# Altium footprint library PcbLibBYB2A.PcbLib: 11 footprints
Each footprint in its own frame and in the unit in brackets; x right, y up, seen from the top. Pads: shape width x height; smd on the part's side, far side on the other; paste and mask are expansions set on the pad; w line width, h text height; cw(c..) or ccw(c..) is an arc to the next point about the centre after c.
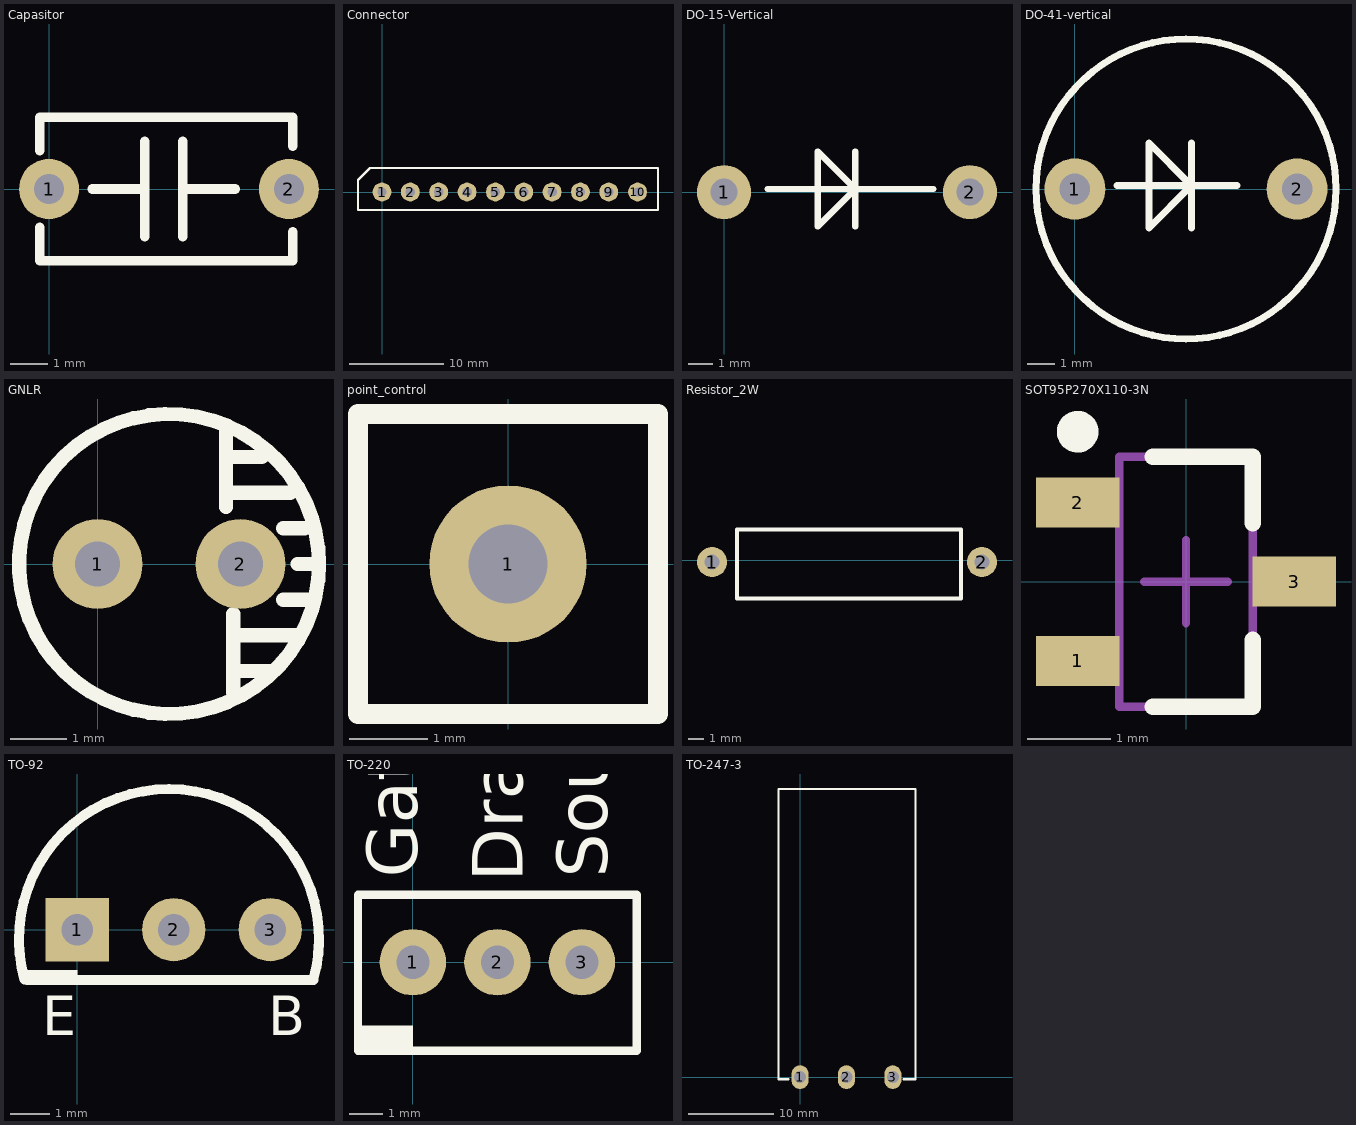
[diagram p0: the footprints below, top view; thin cyan lines are the x and y axes]

## Capasitor [mm]
pads (2):
  round 1.6 hole 0.8: 1(0,0) 2(6.38,0)
Top Overlay:
  lines w0.254: -0.254,-1.016 -0.254,-1.905 6.477,-1.905 6.477,-1.143 ; -0.254,1.016 -0.254,1.905 6.477,1.905 6.477,1.143 ; 1.143,0 2.54,0 ; 2.54,-1.27 2.54,1.27 ; 3.556,-1.27 3.556,1.27 ; 3.556,0 4.953,0
3D body "конденсатор1.STEP": height 7.17, standoff -1, extent -0.316,-2.931 6.58,2.979

## Connector [mm]
pads (10):
  round 2 hole 1: 1(0,0) 2(3,0) 3(6,0) 4(9,0) 5(12,0) 6(15,0) 7(18,0) 8(21,0) 9(24,0) 10(27.051,0)
Top Overlay:
  lines w0.254: -2.54,-1.905 29.21,-1.905 29.21,1.524 29.21,2.54 -1.27,2.54 -2.54,1.27 -2.54,-0.635 -2.54,-1.905

## DO-15-Vertical [mm]
pads (2):
  round 2.2 hole 1.1: 1(0,0) 2(10,0)
Top Overlay:
  lines w0.254: 1.778,0.127 5.334,0.127 ; 5.334,-1.397 5.334,1.651 ; 8.509,0.127 5.334,0.127 ; 5.334,0.127 3.81,-1.397 3.81,1.27 3.81,1.651 5.334,0.127
3D body "DO-15-vertical.STEP": height 8.38, standoff -4, extent -1.299,-1.299 10.5,1.299

## DO-41-vertical [mm]
pads (2):
  round 2.2 hole 1.1: 1(0,0) 2(8,0)
Top Overlay:
  circle w0.254: c4,0 r5.398
  lines w0.254: 1.524,0.127 4.191,0.127 ; 4.191,-1.397 4.191,1.651 ; 5.842,0.127 4.191,0.127 ; 4.191,0.127 2.667,-1.397 2.667,1.27 2.667,1.651 4.191,0.127
3D body "DO-41-vertical.STEP": height 12.1, standoff -4, extent -1.35,-1.35 8.5,1.35

## GNLR [mm]
pads (2):
  round 1.6 hole 0.8: 1(0,0) 2(2.54,0)
Top Overlay:
  circle w0.254: c1.27,0 r2.67
  lines w0.254: 2.286,1.016 2.286,2.413 ; 2.286,1.27 3.429,1.27 ; 2.286,1.905 2.921,1.905 ; 2.413,-2.286 2.413,-0.889 ; 2.413,-1.905 3.048,-1.905 ; 2.54,-1.27 3.556,-1.27 ; 3.302,-0.635 3.81,-0.635 ; 3.302,0.635 3.683,0.635 ; 3.556,0 3.94,0
3D body "gnl3014.STEP": height 8, standoff -2.5, extent -0.68,-1.95 3.22,1.95

## point_control [mm]
pads (1):
  round 2 hole 1: 1(0,0)
Top Overlay:
  lines w0.254: -1.905,-1.905 -1.905,1.905 1.905,1.905 1.905,-1.905 -1.905,-1.905
3D body "Pin Header 1x1 TH Pitch 2.54mm.stp": height 10, standoff -2.7, extent -1.27,-1.27 1.27,1.27

## Resistor_2W [mm]
pads (2):
  round 2 hole 1: 1(9.144,-0.127) 2(27.051,-0.127)
Top Overlay:
  lines w0.254: 10.795,-2.54 10.795,2.032 25.654,2.032 25.654,-2.54 10.795,-2.54
3D body "Resistor_15R_to_Proteus.STEP": height 5.02, standoff -2.37, extent 8.89,-2.621 27.375,2.159

## SOT95P270X110-3N [mm] "SOT23, 3-Leads, Body 2,95x2,70mm, Pitch 0,95mm, IPC Medium Density"
height 1.1
pads (3):
  rect 1x0.6 smd: 1(-1.3,-0.95) 2(-1.3,0.95) 3(1.3,0)
Top Overlay:
  circle w0.25: c-1.3,1.8 r0.125
  lines w0.2: -0.4,-1.5 0.8,-1.5 0.8,-0.7 ; -0.4,1.5 0.8,1.5 0.8,0.7
Mechanical 13:
  lines w0.1: -0.8,-1.5 -0.8,1.5 0.8,1.5 0.8,-1.5 -0.8,-1.5
Mechanical 15:
  lines w0.1: -0.5,0 0.5,0 ; 0,-0.5 0,0.5
3D body "SOT95P270X110-3N.step": height 1.1, standoff 0, extent -1.4,-1.5 1.4,1.5

## TO-92 [mm]
pads (3):
  rect 1.6x1.6 hole 0.8: 1(0,0)
  round 1.6 hole 0.8: 2(2.44,0) 3(4.88,0)
Top Overlay:
  rectangle: -1.27,-1.143 0,-1.016
  lines w0.254: -1.332,-1.266 cw(c2.319,-0.236) 5.969,-1.27 -1.27,-1.27
  text "B" at 4.826,-2.667 h1
  text "E" at -0.889,-2.667 h1
3D body "TO-92(Марка корпуса).STEP": height 7.37, standoff -3, extent -0.381,-0.958 5.199,2.482

## TO-220 [mm]
pads (3):
  round 2 hole 1: 1(0,0) 2(2.54,0) 3(5.08,0)
Top Overlay:
  rectangle: -1.651,-2.54 0,-1.905
  lines w0.254: -1.651,-2.667 -1.651,2.032 1.397,2.032 6.731,2.032 6.731,-2.667 -1.651,-2.667
  text "Source" at 5.842,2.54 h1.52
  text "Drain" at 3.302,2.413 h1.52
  text "Gate" at 0.127,2.54 h1.52
3D body "ТО-220(наклон).STEP": height 5.5, standoff -3.16, extent -2.41,-0.381 7.49,23.352

## TO-247-3 [mm]
pads (3):
  oval 2x2.8 hole 1.4: 1(0,0) 2(5.46,0) 3(10.92,0)
Top Overlay:
  lines w0.254: -1.397,-0.254 -2.54,-0.254 -2.54,33.909 13.589,33.909 13.589,-0.254 12.192,-0.254
3D body "TO-247-3.STEP": height 5.5, standoff -3.6, extent -2.54,-0.254 13.66,33.946